# Altium footprint library TO.PcbLib: 17 footprints (part 1 of 2)
Each footprint in its own frame and in the unit in brackets; x right, y up, seen from the top. Pads: shape width x height; smd on the part's side, far side on the other; paste and mask are expansions set on the pad; w line width, h text height; cw(c..) or ccw(c..) is an arc to the next point about the centre after c.
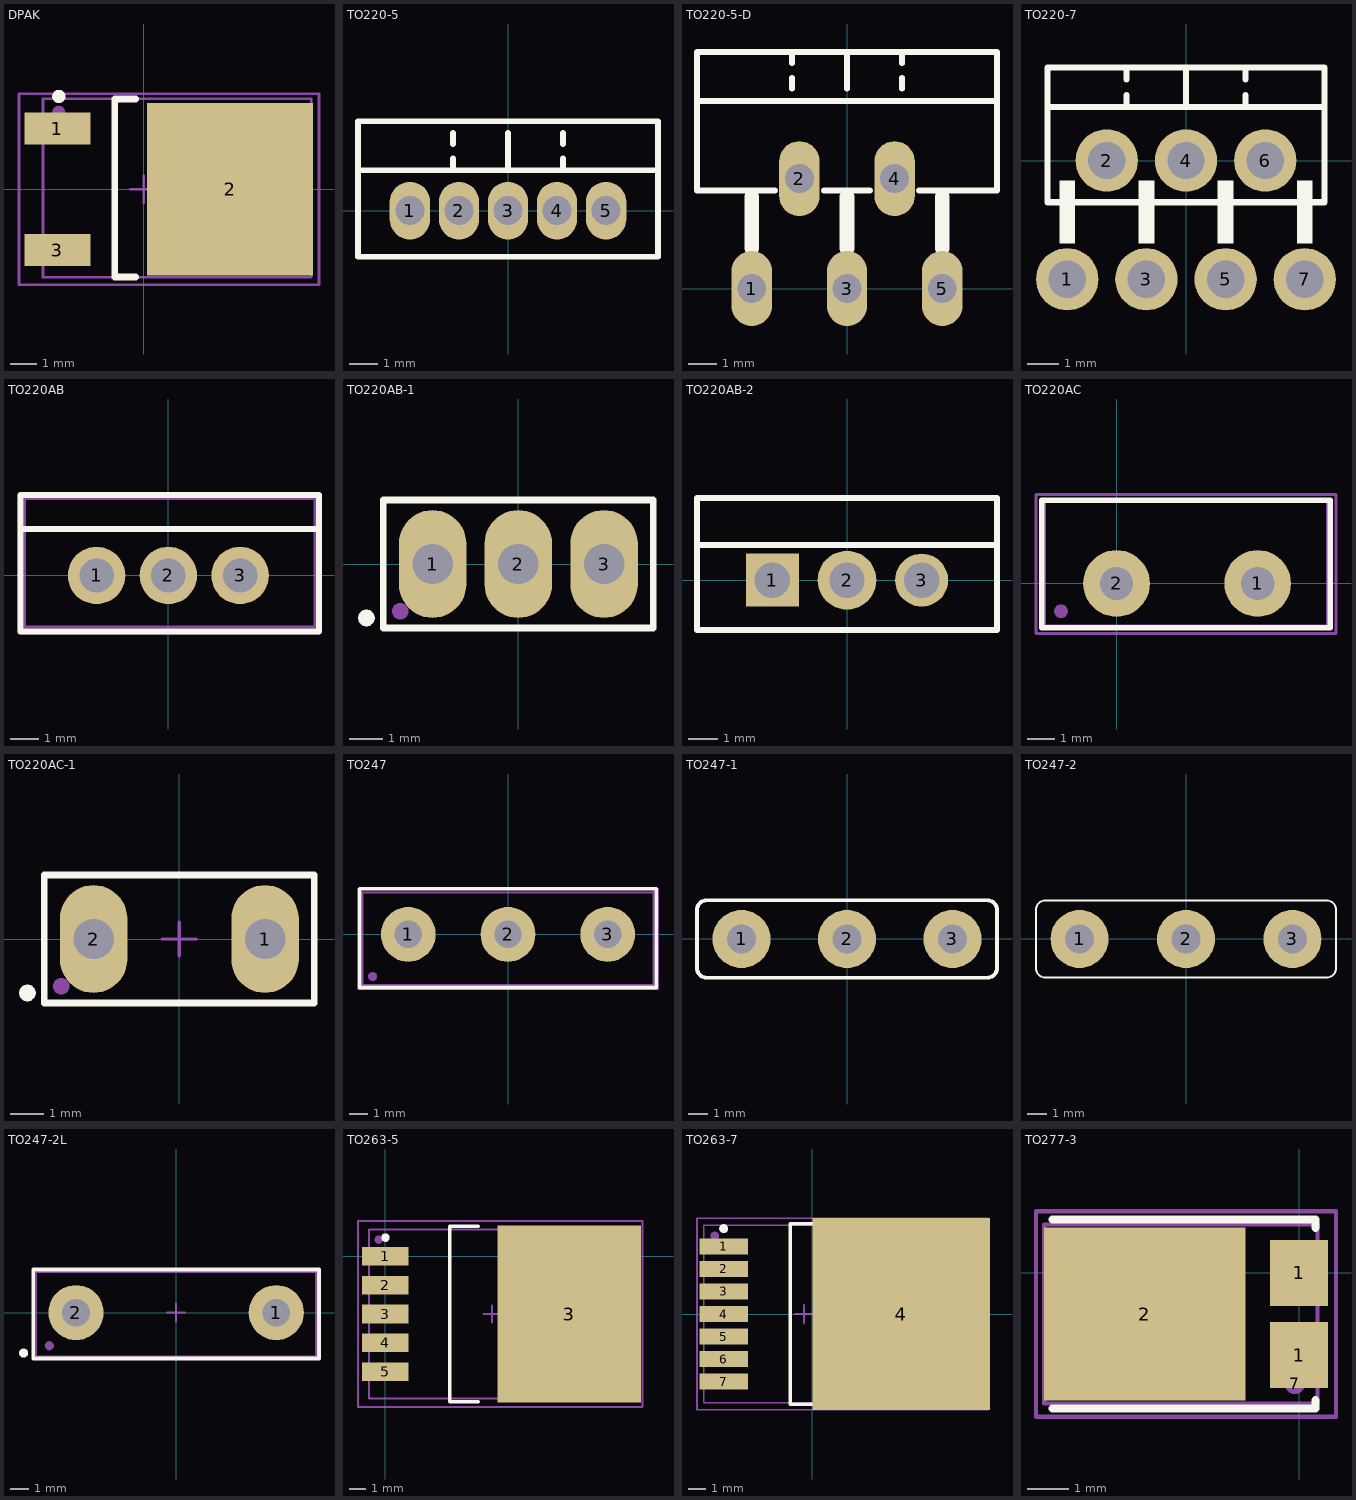
[diagram p0: the footprints below, top view; thin cyan lines are the x and y axes]

## DPAK [mm]
height 2.4
pads (4):
  rect 2.5x1.2 smd: 1(-3.25,2.29) 3(-3.25,-2.29)
  rect 6.25x6.5 smd: 2(3.25,0)
  round 0.5 on Mech1: ""(-3.2,2.9)
Top Overlay:
  circle w0.25: c-3.2,3.5 r0.125
  lines w0.25: -0.3,-3.3 -1.1,-3.3 -1.1,3.4 -0.3,3.4
Mechanical 1:
  lines w0.1: -3.798,-3.317 -3.798,3.417 6.302,3.417 ; -3.798,-3.317 -3.798,-3.317 ; -3.798,-3.317 6.302,-3.317 6.302,3.417 ; 6.302,3.417 6.302,3.417
Mechanical 15:
  lines w0.1: -0.5,0 0.5,0 ; 0,-0.5 0,0.5 ; -4.7,-3.6 6.6,-3.6 6.6,3.6 -4.7,3.6 -4.7,-3.6
3D body "User Library-DPAK_TO-252AA.STEP": height 2.37, standoff -0.03, extent -3.798,-3.317 6.302,3.417

## TO220-5 [mm] "TO-220 STRAIGHT, T05A pitch: 1.7mm"
pads (5):
  oval 1.4x2 hole 1: 1(-3.4,0) 2(-1.7,0) 3(0,0) 4(1.7,0) 5(3.4,0)
Top Overlay:
  lines w0.2: -5.2,1.4 5.2,1.4 ; -1.905,1.424 -1.905,1.805 ; -1.905,2.313 -1.905,2.694 ; 0,1.424 0,2.694 ; 1.905,1.424 1.905,1.805 ; 1.905,2.313 1.905,2.694 ; -5.2,-1.6 5.2,-1.6 5.2,3.1 -5.2,3.1 -5.2,-1.6
3D body "User Library-TO220-5T PCB.step": height 17.05, standoff -6.52, extent -5.06,-1.55 5.06,2.907

## TO220-5-D [mm] "TO-220 BEND, T05D, PENTAWATT"
pads (5):
  oval 1.4x2.6 hole 1: 1(-3.302,0) 2(-1.651,3.81) 3(0,0) 4(1.651,3.81) 5(3.302,0)
Top Overlay:
  lines w0.2: -5.2,6.5 5.1,6.5 ; -2.5,3.4 -5.2,3.4 -5.2,8.2 5.2,8.2 5.2,3.4 2.5,3.4 ; -1.905,6.923 -1.905,7.304 ; -1.905,7.812 -1.905,8.193 ; -0.8,3.4 0.8,3.4 ; 0,6.923 0,8.193 ; 1.905,6.923 1.905,7.304 ; 1.905,7.812 1.905,8.193
  lines w0.508: -3.302,1.397 -3.302,3.175 ; 0,1.397 0,3.175 ; 3.302,1.397 3.302,3.175
3D body "SW3dPS-TO220-5 BEND-LEAD.STEP": height 22.35, standoff -1.64, extent -5.08,-0.183 5.08,8.057

## TO220-7 [mm]
pads (7):
  round 2 hole 1.2: 1(-3.81,-3.81) 2(-2.54,0) 3(-1.27,-3.81) 4(0,0) 5(1.27,-3.81) 6(2.54,0) 7(3.81,-3.81)
Top Overlay:
  rectangle: 3.556,-2.667 4.064,-0.635
  rectangle: 1.016,-2.667 1.524,-0.635
  rectangle: -1.524,-2.667 -1.016,-0.635
  rectangle: -4.064,-2.667 -3.556,-0.635
  lines w0.2: -4.445,1.713 4.445,1.713 ; -1.905,1.713 -1.905,2.094 ; -1.905,2.602 -1.905,2.983 ; 0,1.713 0,2.983 ; 1.905,1.713 1.905,2.094 ; 1.905,2.602 1.905,2.983 ; -4.445,-1.335 -4.445,2.983 4.445,2.983 4.445,-1.335 -4.445,-1.335
3D body "User Library-TO-220-7.step": height 20.3, standoff -3.22, extent -5.08,-3.9 5.08,2.838

## TO220AB [mm]
height 22
pads (3):
  round 2 hole 1.2: 1(-2.5,0) 2(0,0) 3(2.5,0)
Top Overlay:
  lines w0.2: -5.15,1.619 5.247,1.619 ; -5.15,-1.95 5.247,-1.95 5.247,2.8 -5.15,2.8 -5.15,-1.95
Mechanical 1:
  lines w0.1: -5,1.6 5.1,1.6 ; -5,-1.8 -5,2.675 5.1,2.675 5.1,-1.8 -5,-1.8
Mechanical 15:
  lines w0.1: -0.5,0 0.5,0 ; 0,-0.5 0,0.5 ; -5.2,-2 5.247,-2 5.247,2.8 -5.2,2.8 -5.2,-2
3D body "User Library-TO220-AB Full.step": height 18.95, standoff -2, extent -4.95,-1.55 4.95,2.907

## TO220AB-1 [mm]
height 22
pads (5):
  oval 2x3.2 hole 1.2: 1(-2.54,0) 2(0,0) 3(2.54,0)
  round 0.5 on Top Overlay: ""(-4.5,-1.6)
  round 0.5 on Mech1: ""(-3.5,-1.4)
Top Overlay:
  lines w0.2: -4,-1.9 4,-1.9 4,1.9 -4,1.9 -4,-1.9
Mechanical 1:
  lines w0.1: -4,-1.9 -4,1.9 4,1.9 4,-1.9 -4,-1.9
Mechanical 15:
  lines w0.1: -0.5,0 0.5,0 ; 0,-0.5 0,0.5
3D body "TO-220-90.STEP": height 2.76, standoff -7.91, extent -4.95,-0.365 4.95,20.665

## TO220AB-2 [mm]
pads (3):
  rect 1.8x1.8 hole 1.2: 1(-2.54,0)
  round 2 hole 1.2: 2(0,0)
  round 1.8 hole 1.2: 3(2.54,0)
Top Overlay:
  lines w0.2: -5.1,1.2 5.1,1.2 ; -5.1,-1.7 -5.1,2.8 5.1,2.8 5.1,-1.7 -5.1,-1.7
3D body "User Library-TO220 L.step": height 4.5, standoff -3, extent -5,-0.146 5,19.558

## TO220AC [mm]
pads (3):
  round 2.4 hole 1.2: 1(5.08,0) 2(0,0)
  round 0.5 on Mech1: ""(-2,-1)
Top Overlay:
  lines w0.2: -2.7,-1.6 7.7,-1.6 7.7,3 -2.7,3 -2.7,-1.6
Mechanical 1:
  lines w0.1: -2.59,-1.533 7.59,-1.533 7.59,2.977 -2.59,2.977 -2.59,-1.533
Mechanical 15:
  lines w0.1: -2.9,-1.8 -2.9,3.2 7.9,3.2 7.9,-1.8 -2.9,-1.8
3D body "TO-220FPAC.stp": height 21.15, standoff -8.45, extent -2.59,-1.533 7.59,2.977

## TO220AC-1 [mm]
pads (4):
  oval 2x3.2 hole 1.2: 1(2.54,0) 2(-2.54,0)
  round 0.5 on Top Overlay: ""(-4.5,-1.6)
  round 0.5 on Mech1: ""(-3.5,-1.4)
Top Overlay:
  lines w0.2: -4,-1.9 4,-1.9 4,1.9 -4,1.9 -4,-1.9
Mechanical 1:
  lines w0.1: -4,-1.9 -4,1.9 4,1.9 4,-1.9 -4,-1.9
Mechanical 15:
  lines w0.1: -0.5,0 0.5,0 ; 0,-0.5 0,0.5
3D body "TO220-2-90.STEP": height 5.98, standoff -8, extent -5.08,-0.225 5.08,21.665

## TO247 [mm] "3-Lead Plastic TO-247"
height 20
pads (4):
  round 3 hole 1.5: 1(-5.45,0) 2(0,0) 3(5.45,0)
  round 0.5 on Mech1: ""(-7.4,-2.3)
Top Overlay:
  lines w0.2: -8.1,-2.9 8.1,-2.9 8.1,2.5 -8.1,2.5 -8.1,-2.9
Mechanical 1:
  lines w0.1: -7.95,2.3 7.9,2.3 7.95,2.35 7.95,-2.75 -7.95,-2.75 -7.95,2.3 ; -7.95,2.3 -7.95,2.3
Mechanical 15:
  lines w0.1: -0.5,0 0.5,0 ; 0,-0.5 0,0.5 ; -8.2,-3 -8.2,2.5 8.2,2.5 8.2,-3 -8.2,-3
3D body "TO247_3_21.STEP": height 26.95, standoff -2.47, extent -7.95,-2.75 7.95,2.35

## TO247-1 [mm] "3-Lead Plastic TO-247"
height 20
pads (3):
  round 3 hole 1.5: 1(-5.45,0) 2(0,0) 3(5.45,0)
Top Overlay:
  lines w0.2: -7.75,-1.5 ccw(c-7.25,-1.5) -7.25,-2 7.25,-2 ccw(c7.25,-1.5) 7.75,-1.5 7.75,1.5 ccw(c7.25,1.5) 7.25,2 -7.25,2 ccw(c-7.25,1.5) -7.75,1.5 -7.75,-1.5
Mechanical 1:
  lines w0.1: -7.75,-1.5 ccw(c-7.25,-1.5) -7.25,-2 7.25,-2 ccw(c7.25,-1.5) 7.75,-1.5 7.75,1.5 ccw(c7.25,1.5) 7.25,2 -7.25,2 ccw(c-7.25,1.5) -7.75,1.5 -7.75,-1.5
Mechanical 15:
  lines w0.1: -0.5,0 0.5,0 ; 0,-0.5 0,0.5 ; -7.75,-1.5 ccw(c-7.25,-1.5) -7.25,-2 7.25,-2 ccw(c7.25,-1.5) 7.75,-1.5 7.75,1.5 ccw(c7.25,1.5) 7.25,2 -7.25,2 ccw(c-7.25,1.5) -7.75,1.5 -7.75,-1.5
3D body "User Library-TO-247H.STEP": height 3.9, standoff -8, extent -7.75,-0.3 7.75,28.1

## TO247-2 [mm]
height 20
pads (3):
  round 3 hole 1.5: 1(-5.5,0) 2(0,0) 3(5.5,0)
Top Overlay:
  lines w0.1: -7.75,-1.5 ccw(c-7.25,-1.5) -7.25,-2 7.25,-2 ccw(c7.25,-1.5) 7.75,-1.5 7.75,1.5 ccw(c7.25,1.5) 7.25,2 -7.25,2 ccw(c-7.25,1.5) -7.75,1.5 -7.75,-1.5
Mechanical 15:
  lines w0.1: -1,0 1,0 ; 0,-1 0,1
3D body "User Library-TO-247_bent_leads.step": height 5.32, standoff -6.68, extent -7.95,-0.508 7.95,26.474

## TO247-2L [mm] "3-Lead Plastic TO-247"
height 20
pads (4):
  round 3 hole 1.5: 1(5.45,0) 2(-5.45,0)
  round 0.5 on Top Overlay: ""(-8.3,-2.2)
  round 0.5 on Mech1: ""(-6.9,-1.8)
Top Overlay:
  lines w0.2: -7.775,-2.5 7.775,-2.5 7.775,2.35 -7.775,2.35 -7.775,-2.5
Mechanical 1:
  lines w0.1: -7.62,-2.386 7.62,-2.386 7.62,2.211 -7.62,2.211 -7.62,-2.386
Mechanical 15:
  lines w0.1: -0.5,0 0.5,0 ; 0,-0.5 0,0.5 ; -7.775,-2.5 -7.775,2.35 7.775,2.35 7.775,-2.5 -7.775,-2.5
3D body "User Library-TO-247-2_PIN.STEP": height 25.33, standoff -10.73, extent -7.62,-2.386 7.62,2.211

## TO263-5 [mm]
height 4.65
pads (7):
  rect 2.75x1.1 smd: 1(0,0) 2(0,-1.71) 3(0,-3.42) 4(0,-5.13) 5(0,-6.84)
  rect 8.5x10.5 smd: 3(10.872,-3.42)
  round 0.5 on Mech1: ""(-0.4,0.98)
Top Overlay:
  circle w0.25: c0,1.1 r0.125
  lines w0.2: 5.5,-8.62 3.8,-8.62 3.8,1.78 5.5,1.78
Mechanical 1:
  lines w0.1: -0.976,-8.42 -0.976,1.58 14.694,1.58 14.694,-8.42 -0.976,-8.42
Mechanical 15:
  lines w0.1: 5.8,-3.42 6.8,-3.42 ; 6.3,-3.92 6.3,-2.92 ; -1.625,-8.92 15.2,-8.92 15.2,2.08 -1.625,2.08 -1.625,-8.92
3D body "TO263-5S.STEP": height 4.93, standoff 0.13, extent -0.976,-8.42 14.694,1.58

## TO263-7 [mm] "TO263-7 (D2Pak, 7-Pads)"
height 4.6
pads (9):
  rect 2.75x0.89 smd paste+0: 1(-5,3.81) 4(-5,0)
  rect 2.75x0.89 smd: 2(-5,2.54) 3(-5,1.27) 5(-5,-1.27) 6(-5,-2.54) 7(-5,-3.81)
  rect 10x10.8 smd: 4(5,0)
  round 0.5 on Mech1: ""(-5.5,4.4)
Top Overlay:
  circle w0.25: c-5,4.81 r0.125
  lines w0.2: 0.923,-5.08 -1.25,-5.08 -1.25,5.08 0.93,5.08
Mechanical 1:
  lines w0.1: -6.117,-5 9.553,-5 9.553,5 -6.117,5 -6.117,-5
Mechanical 15:
  lines w0.1: -0.974,0 0.026,0 ; -0.472,-0.5 -0.472,0.5 ; -6.502,-5.4 9.9,-5.4 9.9,5.4 -6.498,5.4 -6.502,-5.4
3D body "TO263-7-1.STEP": height 4.83, standoff 0.03, extent -6.117,-5 9.553,5

## TO277-3 [mm]
pads (4):
  rect 1.4x1.6 smd: 1(0,-2) 1(0,0)
  rect 4.9x4.2 smd: 2(-3.75,-1)
  round 0.5 on Mech1: 7(-0.1,-2.7)
Top Overlay:
  lines w0.2: -6,-3.3 0.4,-3.3 0.4,-3.1 ; -6,1.3 0.4,1.3 0.4,1.1
Mechanical 1:
  lines w0.1: -6.2,1.175 -6.2,-3.175 0.45,-3.175 0.45,1.175 -6.2,1.175 ; -6.2,1.175 -6.2,1.175
Mechanical 15:
  lines w0.1: -6.4,-3.5 -6.4,1.5 0.9,1.5 0.9,-3.5 -6.4,-3.5
3D body "TO-277_3L.stp": height 1.25, standoff 0, extent -6.2,-3.175 0.45,1.175